# Altium footprint library adding.PcbLib: 6 footprints
Each footprint in its own frame and in the unit in brackets; x right, y up, seen from the top. Pads: shape width x height; smd on the part's side, far side on the other; paste and mask are expansions set on the pad; w line width, h text height; cw(c..) or ccw(c..) is an arc to the next point about the centre after c.
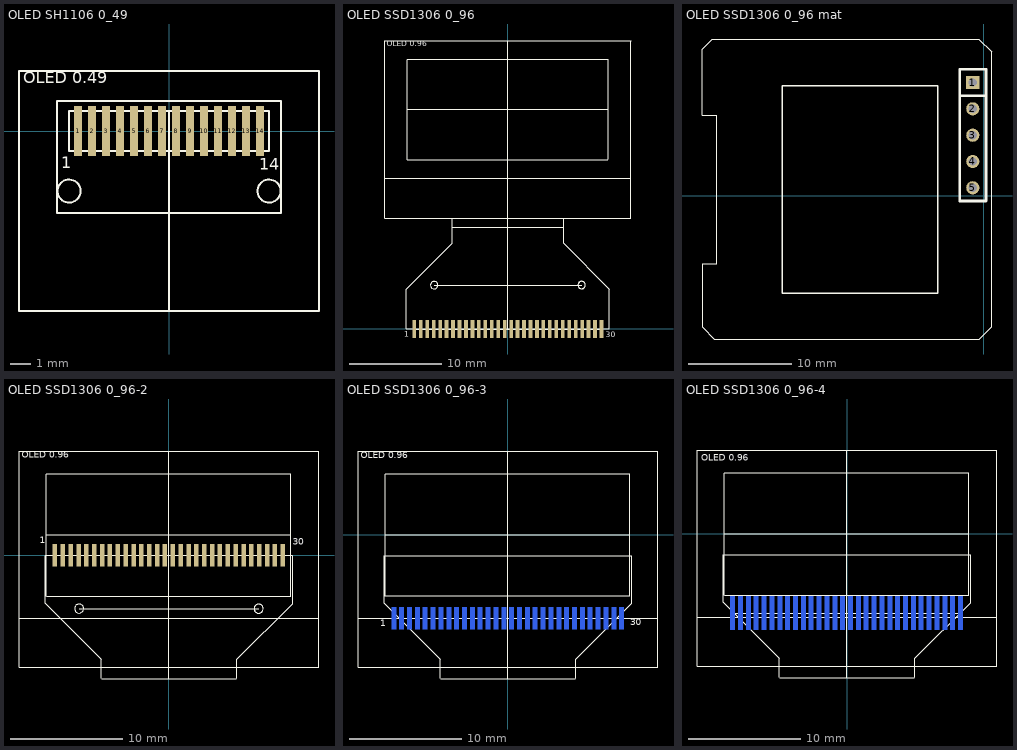
[diagram p0: the footprints below, top view; thin cyan lines are the x and y axes]

## OLED SH1106 0_49 [mm]
pads (14):
  rect 0.4x2.5 smd: 1(-4.55,0) 2(-3.85,0) 3(-3.15,0) 4(-2.45,0) 5(-1.75,0) 6(-1.05,0) 7(-0.35,0) 8(0.35,0) 9(1.05,0) 10(1.75,0) 11(2.45,0) 12(3.15,0) 13(3.85,0) 14(4.55,0)
Top Overlay:
  circle w0.1: c-5,-3 r0.576
  circle w0.1: c5,-3 r0.576
  lines w0.1: -0.005,-8.995 -0.005,1.005 ; -0.005,1.005 4.995,1.005 4.995,-0.995 -0.005,-0.995 -5.005,-0.995 -5.005,1.005 -0.005,1.005 ; -7.505,-8.995 -7.505,3.005 7.495,3.005 7.495,-8.995 -7.505,-8.995 ; -5.614,-4.095 -5.614,1.505 5.586,1.505 5.586,-4.095 -5.614,-4.095
  text "14" at 4.508,-2.146 h1
  text "1" at -5.387,-2.051 h1
  text "OLED 0.49" at -7.287,2.198 h1

## OLED SSD1306 0_96 [mm]
pads (30):
  rect 0.4x2 smd: 1(-10.146,-0.014) 2(-9.446,-0.014) 3(-8.746,-0.014) 4(-8.046,-0.014) 5(-7.346,-0.014) 6(-6.646,-0.014) 7(-5.946,-0.014) 8(-5.246,-0.014) 9(-4.547,-0.014) 10(-3.847,-0.014) 11(-3.147,-0.014) 12(-2.447,-0.014) 13(-1.747,-0.014) 14(-1.047,-0.014) 15(-0.347,-0.014) 16(0.353,-0.014) 17(1.053,-0.014) 18(1.753,-0.014) 19(2.453,-0.014) 20(3.153,-0.014) 21(3.853,-0.014) 22(4.553,-0.014) 23(5.252,-0.014) 24(5.952,-0.014) 25(6.652,-0.014) 26(7.352,-0.014) 27(8.052,-0.014) 28(8.752,-0.014) 29(9.452,-0.014) 30(10.152,-0.014)
Top Overlay:
  circle w0.05: c-7.995,4.747 r0.4
  circle w0.05: c8.002,4.748 r0.4
  circle w0.05: c7.994,4.759 r0.4
  lines w0.1: -13.35,16.36 13.35,16.36 ; -11.019,0.025 -11.019,4.284 -6.035,9.268 -6.035,11.963 ; -10.998,-0.002 11.002,-0.002 ; -10.906,18.348 -10.906,29.212 ; -10.903,29.243 10.841,29.243 ; -10.889,18.362 10.855,18.362 ; -10.87,23.808 10.874,23.808 ; -10.192,-0.002 10.108,-0.002 ; -10.146,-0.015 10.154,-0.015 ; -7.998,4.748 8.002,4.748 ; -5.998,10.998 6.002,10.998 ; 0.001,0.001 0.001,31.201 ; 6.034,11.975 6.034,9.28 11.018,4.296 11.018,0.037 ; 10.869,18.377 10.869,29.241 ; 13.351,31.261 13.351,12.001 -13.349,12.001 -13.349,31.261 13.376,31.261
  text "OLED 0.96" at -13.117,30.437 h1
  text "30" at 10.619,-1.097 h1
  text "1" at -11.226,-1.082 h1

## OLED SSD1306 0_96 mat [mil]
pads (5):
  rect 50x50 hole 32: 1(-41.02,430.94)
  round 50 hole 32: 2(-41.02,330.94) 3(-41.02,230.94) 4(-41.02,130.94) 5(-41.02,30.94)
Top Overlay:
  lines w3.94: -1068.15,306.22 -1013.78,306.22 -1013.78,-256.77 -1066.93,-256.77 -1066.93,-498.62 -1022.24,-543.31 -15.91,-543.31 30.35,-497.05 30.35,548.11 -17.8,596.26 -1029.84,596.26 -1068.15,557.95 -1068.15,306.22
  lines w5: -765.03,-368.82 -174.48,-368.82 -174.48,418.58 -765.03,418.58 -765.03,-368.82
  lines w10: -91.02,380.94 8.98,380.94 ; -91.02,-19.06 -91.02,480.94 8.98,480.94 8.98,-19.06 -91.02,-19.06

## OLED SSD1306 0_96-2 [mm]
pads (30):
  rect 0.4x2 smd: 1(-10.149,0) 2(-9.449,0) 3(-8.749,0) 4(-8.049,0) 5(-7.349,0) 6(-6.649,0) 7(-5.949,0) 8(-5.249,0) 9(-4.55,0) 10(-3.85,0) 11(-3.15,0) 12(-2.45,0) 13(-1.75,0) 14(-1.05,0) 15(-0.35,0) 16(0.35,0) 17(1.05,0) 18(1.75,0) 19(2.45,0) 20(3.15,0) 21(3.85,0) 22(4.55,0) 23(5.249,0) 24(5.949,0) 25(6.649,0) 26(7.349,0) 27(8.049,0) 28(8.749,0) 29(9.449,0) 30(10.149,0)
Top Overlay:
  circle w0.05: c7.991,-4.773 r0.4
  circle w0.05: c7.999,-4.762 r0.4
  circle w0.05: c-7.998,-4.761 r0.4
  lines w0.1: -13.353,-5.641 13.347,-5.641 ; -11.022,-0.039 -11.022,-4.298 -6.038,-9.282 ; -11.001,-0.012 10.999,-0.012 ; -10.909,-3.653 -10.909,7.211 ; -10.906,7.242 10.838,7.242 ; -10.892,-3.639 10.852,-3.639 ; -10.873,1.807 10.871,1.807 ; -10.195,-0.012 10.105,-0.012 ; -10.149,0.001 10.151,0.001 ; -8.001,-4.762 7.999,-4.762 ; -6.038,-10.962 -6.038,-9.274 ; -6.001,-11.012 5.999,-11.012 ; -0.002,-11 -0.002,9.2 ; 6.031,-10.962 6.031,-9.327 ; 6.031,-9.294 11.015,-4.31 11.015,-0.051 ; 10.866,-3.624 10.866,7.24 ; 13.348,9.26 13.348,-10 -13.352,-10 -13.352,9.26 13.373,9.26
  text "OLED 0.96" at -13.12,8.436 h1
  text "1" at -11.489,0.844 h1
  text "30" at 11.046,0.714 h1

## OLED SSD1306 0_96-3 [mm]
pads (30):
  rect 0.4x2 smd far side: 1(-10.174,-7.421) 2(-9.474,-7.421) 3(-8.774,-7.421) 4(-8.074,-7.421) 5(-7.374,-7.421) 6(-6.674,-7.421) 7(-5.974,-7.421) 8(-5.274,-7.421) 9(-4.575,-7.421) 10(-3.875,-7.421) 11(-3.175,-7.421) 12(-2.475,-7.421) 13(-1.775,-7.421) 14(-1.075,-7.421) 15(-0.375,-7.421) 16(0.325,-7.421) 17(1.025,-7.421) 18(1.725,-7.421) 19(2.425,-7.421) 20(3.125,-7.421) 21(3.825,-7.421) 22(4.525,-7.421) 23(5.224,-7.421) 24(5.924,-7.421) 25(6.624,-7.421) 26(7.324,-7.421) 27(8.024,-7.421) 28(8.724,-7.421) 29(9.424,-7.421) 30(10.124,-7.421)
Top Overlay:
  lines w0.1: -13.362,-7.435 13.338,-7.435 ; -11.031,-1.833 -11.031,-6.092 -6.047,-11.076 ; -10.989,-1.849 11.011,-1.849 ; -10.918,-5.447 -10.918,5.417 ; -10.915,5.448 10.829,5.448 ; -10.901,-5.433 10.843,-5.433 ; -10.882,0.013 10.862,0.013 ; -10.22,-7.433 10.08,-7.433 ; -10.174,-7.42 10.126,-7.42 ; -6.047,-12.756 -6.047,-11.068 ; -6.01,-12.806 5.99,-12.806 ; -0.011,-12.794 -0.011,7.406 ; 6.022,-12.756 6.022,-11.121 ; 6.022,-11.088 11.006,-6.104 11.006,-1.845 ; 10.857,-5.418 10.857,5.446 ; 13.339,7.466 13.339,-11.794 -13.361,-11.794 -13.361,7.466 13.364,7.466
  text "OLED 0.96" at -13.105,6.632 h1
  text "30" at 10.874,-8.281 h1
  text "1" at -11.395,-8.353 h1

## OLED SSD1306 0_96-4 [mm]
pads (30):
  rect 0.4x3 smd far side: 1(-10.192,-7.058) 2(-9.492,-7.058) 3(-8.792,-7.058) 4(-8.092,-7.058) 5(-7.392,-7.058) 6(-6.692,-7.058) 7(-5.992,-7.058) 8(-5.292,-7.058) 9(-4.593,-7.058) 10(-3.893,-7.058) 11(-3.193,-7.058) 12(-2.493,-7.058) 13(-1.793,-7.058) 14(-1.093,-7.058) 15(-0.393,-7.058) 16(0.307,-7.058) 17(1.007,-7.058) 18(1.707,-7.058) 19(2.407,-7.058) 20(3.107,-7.058) 21(3.807,-7.058) 22(4.507,-7.058) 23(5.206,-7.058) 24(5.906,-7.058) 25(6.606,-7.058) 26(7.306,-7.058) 27(8.006,-7.058) 28(8.706,-7.058) 29(9.406,-7.058) 30(10.106,-7.058)
Top Overlay:
  lines w0.1: -13.37,-7.447 13.33,-7.447 ; -11.039,-1.845 -11.039,-6.104 -6.055,-11.088 ; -10.997,-1.861 11.003,-1.861 ; -10.926,-5.459 -10.926,5.405 ; -10.923,5.436 10.821,5.436 ; -10.909,-5.445 10.835,-5.445 ; -10.89,0.001 10.854,0.001 ; -10.238,-7.07 10.062,-7.07 ; -10.192,-7.057 10.108,-7.057 ; -6.055,-12.768 -6.055,-11.08 ; -6.018,-12.818 5.982,-12.818 ; -0.019,-12.806 -0.019,7.394 ; 6.014,-12.768 6.014,-11.133 ; 6.014,-11.1 10.998,-6.116 10.998,-1.857 ; 10.849,-5.43 10.849,5.434 ; 13.331,7.454 13.331,-11.806 -13.369,-11.806 -13.369,7.454 13.356,7.454
  text "OLED 0.96" at -12.976,6.279 h1